# Altium footprint library WE-CFWI.PcbLib: 3 footprints
Each footprint in its own frame and in the unit in brackets; x right, y up, seen from the top. Pads: shape width x height; smd on the part's side, far side on the other; paste and mask are expansions set on the pad; w line width, h text height; cw(c..) or ccw(c..) is an arc to the next point about the centre after c.
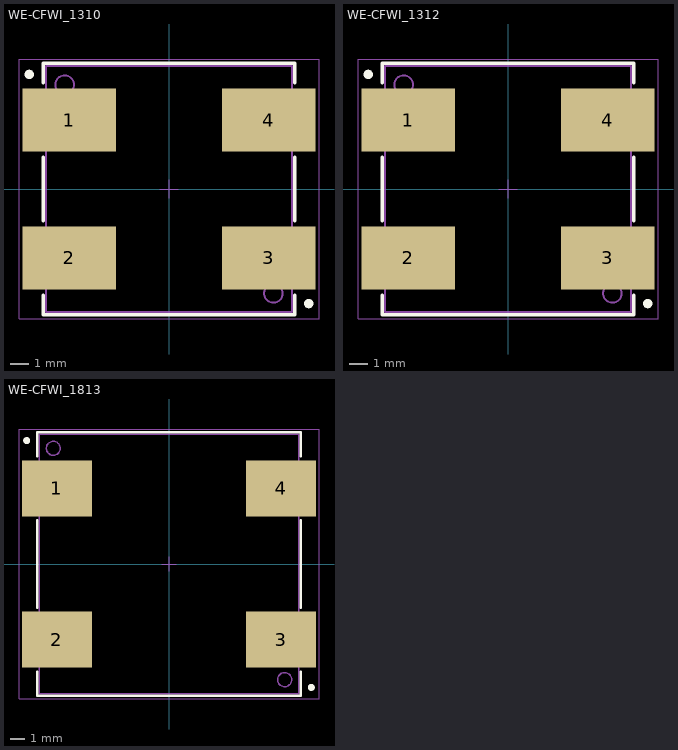
[diagram p0: the footprints below, top view; thin cyan lines are the x and y axes]

## WE-CFWI_1310 [mm] "Coupled Flatwire Inductor, 4-Leads, Body 13.2x13.2mm"
height 10.5
pads (4):
  rect 5x3.4 smd: 1(-5.35,3.7) 2(-5.35,-3.7) 3(5.35,-3.7) 4(5.35,3.7)
Top Overlay:
  circle w0.25: c7.5,-6.15 r0.125
  circle w0.25: c-7.5,6.15 r0.125
  lines w0.2: -6.75,-5.7 -6.75,-6.75 6.75,-6.75 6.75,-5.7 ; -6.75,-1.7 -6.75,1.7 ; -6.75,5.7 -6.75,6.75 6.75,6.75 6.75,5.7 ; 6.75,-1.7 6.75,1.7
Top Designator:
  text ".Designator" at -7.498,-0.5 h1.5
Top Component Outline:
  circle w0.1: c-5.6,5.6 r0.5
  circle w0.1: c5.6,-5.6 r0.5
  lines w0.1: -6.6,-6.6 6.6,-6.6 6.6,6.6 -6.6,6.6 -6.6,-6.6
Top 3D Body:
  circle w0.1: c-5.6,5.6 r0.5
  circle w0.1: c5.6,-5.6 r0.5
  lines w0.1: -6.6,-6.6 6.6,-6.6 6.6,6.6 -6.6,6.6 -6.6,-6.6
Top Courtyard:
  lines w0.05: -0.5,0 0.5,0 ; 0,-0.5 0,0.5 ; -8.05,-6.95 8.05,-6.95 8.05,6.95 -8.05,6.95 -8.05,-6.95
3D body "IndCFWI_1310_74485540xxx.stp": height 9.75, standoff 0, extent -7.2,-6.6 7.2,6.6

## WE-CFWI_1312 [mm] "Coupled Flatwire Inductor, 4-Leads, Body 13.2x13.2mm"
height 12.5
pads (4):
  rect 5x3.4 smd: 1(-5.35,3.7) 2(-5.35,-3.7) 3(5.35,-3.7) 4(5.35,3.7)
Top Overlay:
  circle w0.25: c7.5,-6.15 r0.125
  circle w0.25: c-7.5,6.15 r0.125
  lines w0.2: -6.75,-5.7 -6.75,-6.75 6.75,-6.75 6.75,-5.7 ; -6.75,-1.7 -6.75,1.7 ; -6.75,5.7 -6.75,6.75 6.75,6.75 6.75,5.7 ; 6.75,-1.7 6.75,1.7
Top Designator:
  text ".Designator" at -7.498,-0.5 h1.5
Top Component Outline:
  circle w0.1: c-5.6,5.6 r0.5
  circle w0.1: c5.6,-5.6 r0.5
  lines w0.1: -6.6,-6.6 6.6,-6.6 6.6,6.6 -6.6,6.6 -6.6,-6.6
Top 3D Body:
  circle w0.1: c-5.6,5.6 r0.5
  circle w0.1: c5.6,-5.6 r0.5
  lines w0.1: -6.6,-6.6 6.6,-6.6 6.6,6.6 -6.6,6.6 -6.6,-6.6
Top Courtyard:
  lines w0.05: -0.5,0 0.5,0 ; 0,-0.5 0,0.5 ; -8.05,-6.95 8.05,-6.95 8.05,6.95 -8.05,6.95 -8.05,-6.95
3D body "IndCFWI_1312.stp": height 11.2, standoff 0.01, extent -7.3,-6.6 7.3,6.6

## WE-CFWI_1813 [mm] "Coupled Flatwire Inductor, 4-Leads, Body 18.5x18.5mm"
height 13.5
pads (4):
  rect 5x4 smd: 1(-8,5.4) 2(-8,-5.4) 3(8,-5.4) 4(8,5.4)
Top Overlay:
  circle w0.25: c10.15,-8.8 r0.125
  circle w0.25: c-10.15,8.8 r0.125
  lines w0.2: -9.4,-7.7 -9.4,-9.4 9.4,-9.4 9.4,-7.7 ; -9.4,-3.1 -9.4,3.1 ; -9.4,7.7 -9.4,9.4 9.4,9.4 9.4,7.7 ; 9.4,-3.1 9.4,3.1
Top Designator:
  text ".Designator" at -7.498,-0.5 h1.5
Top Component Outline:
  circle w0.1: c-8.25,8.25 r0.5
  circle w0.1: c8.25,-8.25 r0.5
  lines w0.1: -9.25,-9.25 9.25,-9.25 9.25,9.25 -9.25,9.25 -9.25,-9.25
Top 3D Body:
  circle w0.1: c-8.25,8.25 r0.5
  circle w0.1: c8.25,-8.25 r0.5
  lines w0.1: -9.25,-9.25 9.25,-9.25 9.25,9.25 -9.25,9.25 -9.25,-9.25
Top Courtyard:
  lines w0.05: -0.5,0 0.5,0 ; 0,-0.5 0,0.5 ; -10.7,-9.6 -10.7,9.6 10.7,9.6 10.7,-9.6 -10.7,-9.6
3D body "IndCFWI_1813.stp": height 12.85, standoff 0.01, extent -9.975,-9.25 9.975,9.25